# Altium footprint library WE-WAFB.PcbLib: 8 footprints
Each footprint in its own frame and in the unit in brackets; x right, y up, seen from the top. Pads: shape width x height; smd on the part's side, far side on the other; paste and mask are expansions set on the pad; w line width, h text height; cw(c..) or ccw(c..) is an arc to the next point about the centre after c.
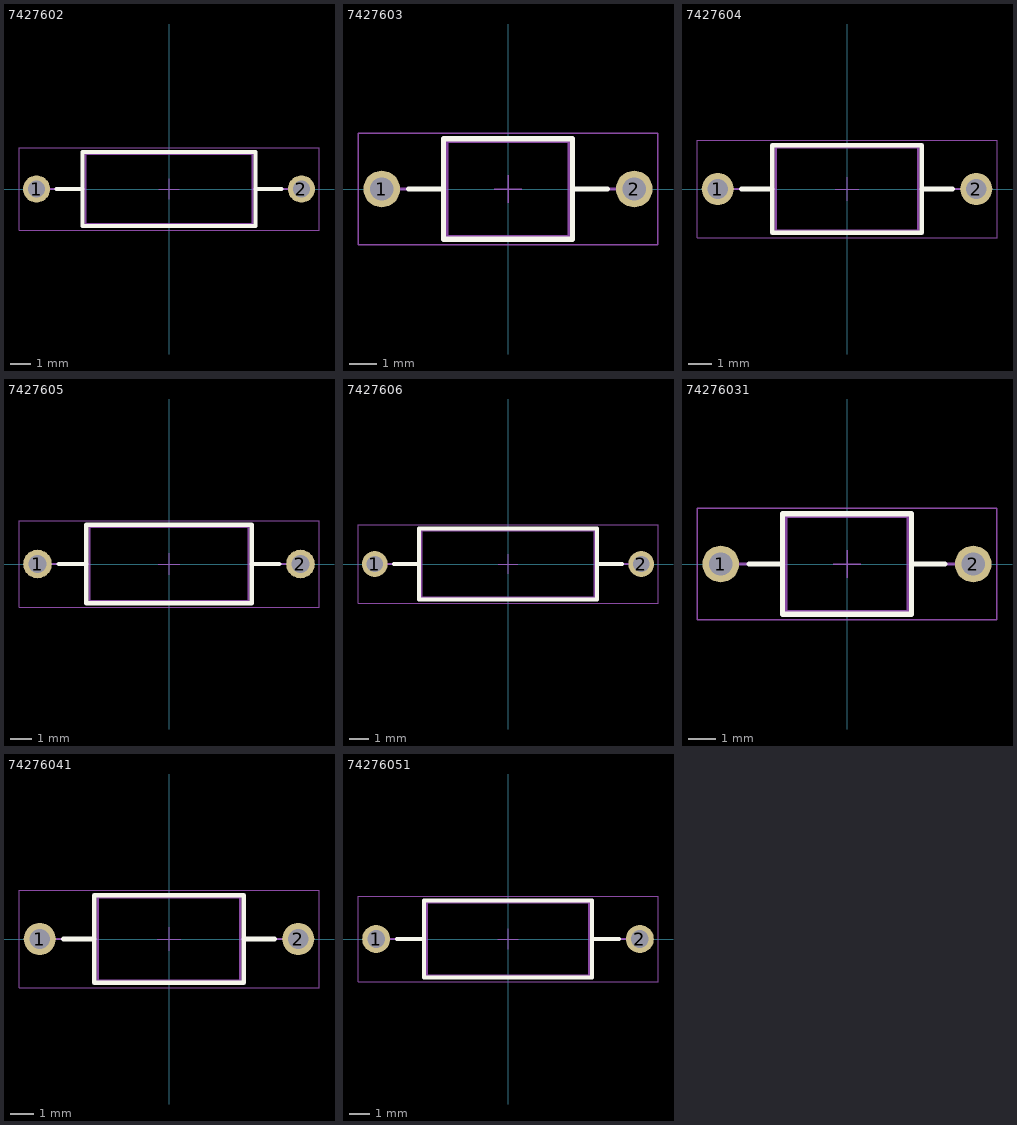
[diagram p0: the footprints below, top view; thin cyan lines are the x and y axes]

## 7427602 [mm] "Sleeve Choke, THT, 2-leads"
height 3.7
pads (2):
  round 1.35 hole 0.85: 1(-6.6,0) 2(6.6,0)
Top Overlay:
  lines w0.2: -5.6,0 -4.3,0 ; 4.3,0 5.6,0 ; -4.3,-1.85 4.3,-1.85 4.3,1.85 -4.3,1.85 -4.3,-1.85
Top Designator:
  text ".Designator" at -7.498,-0.5 h1.5
Top Component Outline:
  lines w0.1: -6.6,0 -4.15,0 ; 4.15,0 6.6,0 ; -4.15,-1.75 4.15,-1.75 4.15,1.75 -4.15,1.75 -4.15,-1.75
Top 3D Body:
  lines w0.1: -6.6,0 -4.15,0 ; 4.15,0 6.6,0 ; -4.15,-1.75 4.15,-1.75 4.15,1.75 -4.15,1.75 -4.15,-1.75
Top Courtyard:
  lines w0.05: -0.5,0 0.5,0 ; 0,-0.5 0,0.5 ; -7.475,-2.05 7.475,-2.05 7.475,2.05 -7.475,2.05 -7.475,-2.05

## 7427603 [mm] "Sleeve Choke, THT, 2-leads"
height 3.7
pads (2):
  round 1.35 hole 0.85: 1(-4.65,0) 2(4.65,0)
Top Overlay:
  lines w0.2: -3.65,0 -2.375,0 ; 2.375,0 3.65,0 ; -2.375,-1.85 2.375,-1.85 2.375,1.85 -2.375,1.85 -2.375,-1.85
Top Designator:
  text ".Designator" at -4.998,-0.333 h1
Top Component Outline:
  lines w0.1: -4.65,0 -2.25,0 ; 2.25,0 4.65,0 ; -2.25,-1.75 2.25,-1.75 2.25,1.75 -2.25,1.75 -2.25,-1.75
Top 3D Body:
  lines w0.1: -4.65,0 -2.25,0 ; 2.25,0 4.65,0 ; -2.25,-1.75 2.25,-1.75 2.25,1.75 -2.25,1.75 -2.25,-1.75
Top Courtyard:
  lines w0.05: -0.5,0 0.5,0 ; 0,-0.5 0,0.5 ; -5.525,-2.05 5.525,-2.05 5.525,2.05 -5.525,2.05 -5.525,-2.05

## 7427604 [mm] "Sleeve Choke, THT, 2-leads"
height 3.7
pads (2):
  round 1.35 hole 0.85: 1(-5.45,0) 2(5.45,0)
Top Overlay:
  lines w0.2: -4.45,0 -3.15,0 ; 3.15,0 4.45,0 ; -3.15,-1.85 -3.15,1.85 3.15,1.85 3.15,-1.85 -3.15,-1.85
Top Designator:
  text ".Designator" at -4.998,-0.333 h1
Top Component Outline:
  lines w0.1: -5.45,0 -3,0 ; 3,0 5.45,0 ; -3,-1.75 -3,1.75 3,1.75 3,-1.75 -3,-1.75
Top 3D Body:
  lines w0.1: -5.45,0 -3,0 ; 3,0 5.45,0 ; -3,-1.75 -3,1.75 3,1.75 3,-1.75 -3,-1.75
Top Courtyard:
  lines w0.05: -0.5,0 0.5,0 ; 0,-0.5 0,0.5 ; -6.325,-2.05 -6.325,2.05 6.325,2.05 6.325,-2.05 -6.325,-2.05

## 7427605 [mm] "Sleeve Choke, THT, 2-leads"
height 3.7
pads (2):
  round 1.35 hole 0.85: 1(-6.2,0) 2(6.2,0)
Top Overlay:
  lines w0.2: -5.2,0 -3.9,0 ; 3.9,0 5.2,0 ; -3.9,-1.85 3.9,-1.85 3.9,1.85 -3.9,1.85 -3.9,-1.85
Top Designator:
  text ".Designator" at -7.498,-0.5 h1.5
Top Component Outline:
  lines w0.1: -6.2,0 -3.75,0 ; 3.75,0 6.2,0 ; -3.75,-1.75 3.75,-1.75 3.75,1.75 -3.75,1.75 -3.75,-1.75
Top 3D Body:
  lines w0.1: -6.2,0 -3.75,0 ; 3.75,0 6.2,0 ; -3.75,-1.75 3.75,-1.75 3.75,1.75 -3.75,1.75 -3.75,-1.75
Top Courtyard:
  lines w0.05: -0.5,0 0.5,0 ; 0,-0.5 0,0.5 ; -7.075,-2.05 7.075,-2.05 7.075,2.05 -7.075,2.05 -7.075,-2.05

## 7427606 [mm] "Sleeve Choke, THT, 2-leads"
height 3.7
pads (2):
  round 1.35 hole 0.85: 1(-6.95,0) 2(6.95,0)
Top Overlay:
  lines w0.2: -5.95,0 -4.65,0 ; 4.65,0 5.95,0 ; -4.65,-1.85 4.65,-1.85 4.65,1.85 -4.65,1.85 -4.65,-1.85
Top Designator:
  text ".Designator" at -7.498,-0.5 h1.5
Top Component Outline:
  lines w0.1: -6.95,0 -4.5,0 ; 4.5,0 6.95,0 ; -4.5,-1.75 4.5,-1.75 4.5,1.75 -4.5,1.75 -4.5,-1.75
Top 3D Body:
  lines w0.1: -6.95,0 -4.5,0 ; 4.5,0 6.95,0 ; -4.5,-1.75 4.5,-1.75 4.5,1.75 -4.5,1.75 -4.5,-1.75
Top Courtyard:
  lines w0.05: -0.5,0 0.5,0 ; 0,-0.5 0,0.5 ; -7.825,-2.05 7.825,-2.05 7.825,2.05 -7.825,2.05 -7.825,-2.05

## 74276031 [mm] "Sleeve Choke, THT, 2-leads"
height 3.7
pads (2):
  round 1.35 hole 0.85: 1(-4.65,0) 2(4.65,0)
Top Overlay:
  lines w0.2: -3.6,0 -2.375,0 ; 2.375,0 3.6,0 ; -2.375,-1.85 -2.375,1.85 2.375,1.85 2.375,-1.85 -2.375,-1.85
Top Designator:
  text ".Designator" at -4.998,-0.333 h1
Top Component Outline:
  lines w0.1: -4.65,0 -2.25,0 ; 2.25,0 4.65,0 ; -2.25,-1.75 -2.25,1.75 2.25,1.75 2.25,-1.75 -2.25,-1.75
Top 3D Body:
  lines w0.1: -4.65,0 -2.25,0 ; 2.25,0 4.65,0 ; -2.25,-1.75 -2.25,1.75 2.25,1.75 2.25,-1.75 -2.25,-1.75
Top Courtyard:
  lines w0.05: -0.5,0 0.5,0 ; 0,-0.5 0,0.5 ; -5.525,-2.05 -5.525,2.05 5.525,2.05 5.525,-2.05 -5.525,-2.05

## 74276041 [mm] "Sleeve Choke, THT, 2-leads"
height 3.7
pads (2):
  round 1.35 hole 0.85: 1(-5.45,0) 2(5.45,0)
Top Overlay:
  lines w0.2: -4.45,0 -3.15,0 ; 3.15,0 4.45,0 ; -3.15,-1.85 3.15,-1.85 3.15,1.85 -3.15,1.85 -3.15,-1.85
Top Designator:
  text ".Designator" at -7.498,-0.5 h1.5
Top Component Outline:
  lines w0.1: -5.45,0 -3,0 ; 3,0 5.45,0 ; -3,-1.75 3,-1.75 3,1.75 -3,1.75 -3,-1.75
Top 3D Body:
  lines w0.1: -5.45,0 -3,0 ; 3,0 5.45,0 ; -3,-1.75 3,-1.75 3,1.75 -3,1.75 -3,-1.75
Top Courtyard:
  lines w0.05: -0.5,0 0.5,0 ; 0,-0.5 0,0.5 ; -6.325,-2.05 6.325,-2.05 6.325,2.05 -6.325,2.05 -6.325,-2.05

## 74276051 [mm] "Sleeve Choke, THT, 2-leads"
height 3.7
pads (2):
  round 1.35 hole 0.85: 1(-6.35,0) 2(6.35,0)
Top Overlay:
  lines w0.2: -5.35,0 -4.05,0 ; 4.05,0 5.35,0 ; -4.05,-1.85 4.05,-1.85 4.05,1.85 -4.05,1.85 -4.05,-1.85
Top Designator:
  text ".Designator" at -7.498,-0.5 h1.5
Top Component Outline:
  lines w0.1: -6.35,0 -3.9,0 ; 3.9,0 6.35,0 ; -3.9,-1.75 3.9,-1.75 3.9,1.75 -3.9,1.75 -3.9,-1.75
Top 3D Body:
  lines w0.1: -6.35,0 -3.9,0 ; 3.9,0 6.35,0 ; -3.9,-1.75 3.9,-1.75 3.9,1.75 -3.9,1.75 -3.9,-1.75
Top Courtyard:
  lines w0.05: -0.5,0 0.5,0 ; 0,-0.5 0,0.5 ; -7.225,-2.05 -7.225,2.05 7.225,2.05 7.225,-2.05 -7.225,-2.05